# Altium footprint library Digital_ICs.PcbLib: 13 footprints
Each footprint in its own frame and in the unit in brackets; x right, y up, seen from the top. Pads: shape width x height; smd on the part's side, far side on the other; paste and mask are expansions set on the pad; w line width, h text height; cw(c..) or ccw(c..) is an arc to the next point about the centre after c.
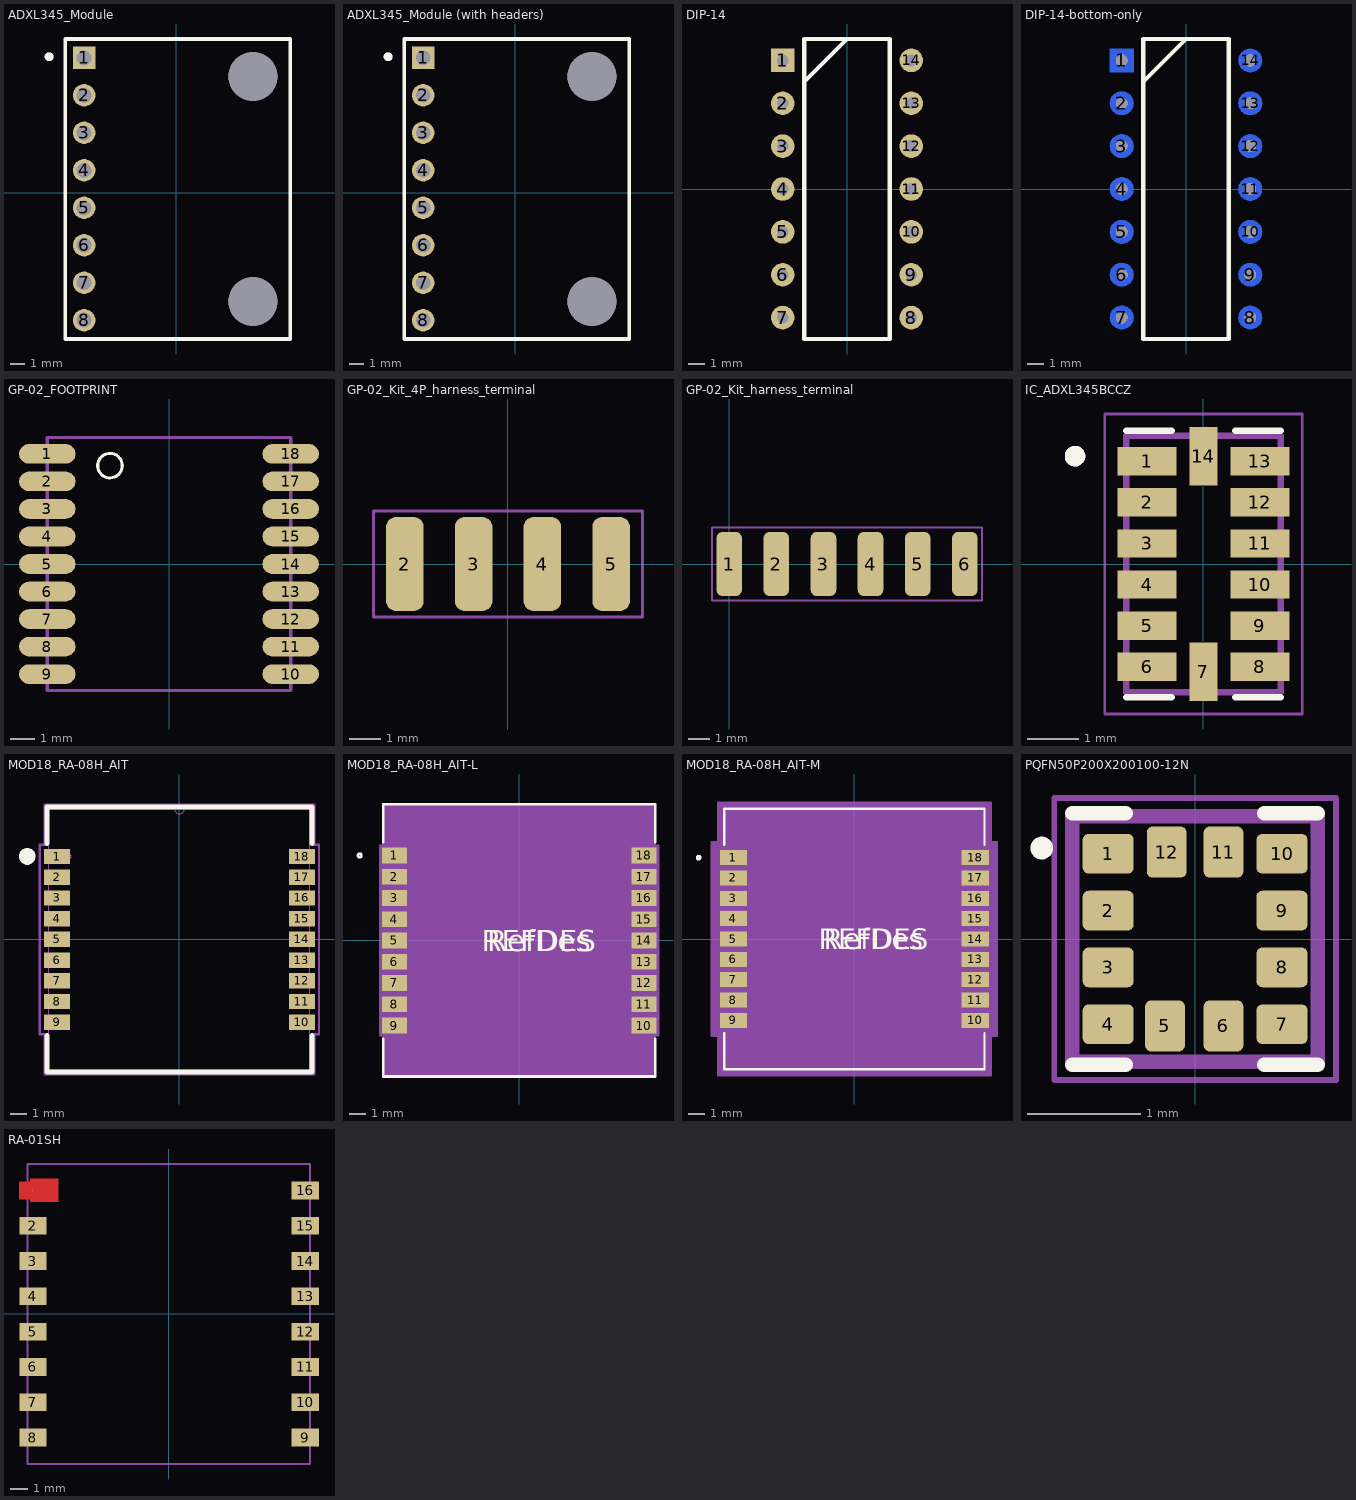
[diagram p0: the footprints below, top view; thin cyan lines are the x and y axes]

## ADXL345_Module [mil]
pads (10):
  rect 60x60 / inner round 60 / far side rect 60x60 hole 40: 1(-245.1,359.59)
  round 60 hole 40: 2(-245.1,259.59) 3(-245.1,159.59) 4(-245.1,59.59) 5(-245.1,-40.41) 6(-245.1,-140.41) 7(-245.1,-240.41) 8(-245.1,-340.41)
  round 130 hole 130 unplated: ""(204.9,-290.41) ""(204.9,309.59)
Top Overlay:
  circle w15.75: c-338.58,362.2 r3.94
  lines w9.84: -295.1,-390.41 304.9,-390.41 304.9,409.59 -295.1,409.59 -295.1,-390.41
Mechanical 13:
  circle w15.75: c-338.58,362.2 r3.94
  lines w5: -295.1,-390.41 304.9,-390.41 304.9,409.59 -295.1,409.59 -295.1,-390.41
3D body "step_temp.STEP": height 101.18, standoff 0, extent -295.1,-390.41 304.9,409.59

## ADXL345_Module (with headers) [mil] "2.54 mm headers welded"
pads (10):
  rect 60x60 / inner round 60 / far side rect 60x60 hole 39.37: 1(-245.1,359.59)
  round 60 hole 39.37: 2(-245.1,259.59) 3(-245.1,159.59) 4(-245.1,59.59) 5(-245.1,-40.41) 6(-245.1,-140.41) 7(-245.1,-240.41) 8(-245.1,-340.41)
  round 130 hole 130 unplated: ""(204.9,-290.41) ""(204.9,309.59)
Top Overlay:
  circle w15.75: c-338.58,362.2 r3.94
  lines w9.84: -295.1,-390.41 304.9,-390.41 304.9,409.59 -295.1,409.59 -295.1,-390.41
Mechanical 13:
  circle w15.75: c-338.58,362.2 r3.94
  lines w5: -295.1,-390.41 304.9,-390.41 304.9,409.59 -295.1,409.59 -295.1,-390.41
3D body "TSW-108-07-S-S-005.stp": height 316.54, standoff -113.46, extent -295.08,-395.16 -195.08,409.84
3D body "step_temp.STEP": height 317.72, standoff 216.54, extent -295.1,-390.41 304.9,409.59

## DIP-14 [mm]
pads (14):
  rect 1.4x1.4 hole 0.7 unplated mask+0.102: 1(-3.81,7.62)
  round 1.4 hole 0.7 unplated mask+0.102: 2(-3.81,5.08) 3(-3.81,2.54) 4(-3.81,0) 5(-3.81,-2.54) 6(-3.81,-5.08) 7(-3.81,-7.62) 8(3.81,-7.62) 9(3.81,-5.08) 10(3.81,-2.54) 11(3.81,0) 12(3.81,2.54) 13(3.81,5.08) 14(3.81,7.62)
Top Overlay:
  lines w0.25: -2.54,6.35 0,8.89 ; -2.54,-8.89 2.54,-8.89 2.54,8.89 -2.54,8.89 -2.54,7.62 -2.54,-7.62 -2.54,-8.89

## DIP-14-bottom-only [mm]
pads (14):
  rect 1.4x1.4 smd far side mask+0.102: 1(-3.81,7.62)
  round 1.4 smd far side mask+0.102: 2(-3.81,5.08) 3(-3.81,2.54) 4(-3.81,0) 5(-3.81,-2.54) 6(-3.81,-5.08) 7(-3.81,-7.62) 8(3.81,-7.62) 9(3.81,-5.08) 10(3.81,-2.54) 11(3.81,0) 12(3.81,2.54) 13(3.81,5.08) 14(3.81,7.62)
via 3.81,7.62 diameter 0.7 hole 0.7
via 3.81,5.08 diameter 0.7 hole 0.7
via 3.81,2.54 diameter 0.7 hole 0.7
via 3.81,0 diameter 0.7 hole 0.7
via 3.81,-2.54 diameter 0.7 hole 0.7
via 3.81,-5.08 diameter 0.7 hole 0.7
via 3.81,-7.62 diameter 0.7 hole 0.7
via -3.81,-7.62 diameter 0.7 hole 0.7
via -3.81,-5.08 diameter 0.7 hole 0.7
via -3.81,-2.54 diameter 0.7 hole 0.7
via -3.81,0 diameter 0.7 hole 0.7
via -3.81,2.54 diameter 0.7 hole 0.7
via -3.81,5.08 diameter 0.7 hole 0.7
via -3.81,7.62 diameter 0.7 hole 0.7
Top Overlay:
  lines w0.25: -2.54,6.35 0,8.89 ; -2.54,-8.89 -2.54,-7.62 -2.54,7.62 -2.54,8.89 2.54,8.89 2.54,-8.89 -2.54,-8.89

## GP-02_FOOTPRINT [mm]
pads (18):
  oval 2.3x0.8 smd: 1(-4.95,4.48) 2(-4.95,3.36) 3(-4.95,2.24) 4(-4.95,1.12) 5(-4.95,0) 6(-4.95,-1.12) 7(-4.95,-2.24) 8(-4.95,-3.36) 9(-4.95,-4.48) 10(4.95,-4.48) 11(4.95,-3.36) 12(4.95,-2.24) 13(4.95,-1.12) 14(4.95,0) 15(4.95,1.12) 16(4.95,2.24) 17(4.95,3.36) 18(4.95,4.48)
Top Overlay:
  circle w0.127: c-2.4,4 r0.5
Mechanical 13:
  lines w0.127: -4.95,-5.15 4.95,-5.15 ; -4.95,-5.15 -4.95,5.15 ; -4.95,-5.15 4.95,-5.15 ; -4.95,-5.15 -4.95,5.15 ; -4.95,5.15 4.95,5.15 ; -4.95,5.15 4.95,5.15 ; 4.95,-5.15 4.95,5.15 ; 4.95,-5.15 4.95,5.15

## GP-02_Kit_4P_harness_terminal [mm] "Reduced to 4 pin: / RX, TX, VCC, GND"
pads (4):
  rrect50% 1.2x3 smd: 2(-3.3,0) 3(-1.1,0) 4(1.1,0) 5(3.3,0)
Mechanical 13:
  lines w0.1: -4.3,-1.7 -4.3,1.7 4.3,1.7 4.3,-1.7 -4.3,-1.7

## GP-02_Kit_harness_terminal [mm]
pads (6):
  rrect50% 1.2x3 smd: 1(0,0) 2(2.2,0) 3(4.4,0) 4(6.6,0) 5(8.8,0) 6(11,0)
Mechanical 13:
  lines w0.1: -0.8,-1.7 11.8,-1.7 11.8,1.7 -0.8,1.7 -0.8,-1.7

## IC_ADXL345BCCZ [mm]
height 1
pads (14):
  rect 1.145x0.55 smd: 1(-1.098,2) 2(-1.098,1.2) 3(-1.098,0.4) 4(-1.098,-0.4) 5(-1.098,-1.2) 6(-1.098,-2) 8(1.098,-2) 9(1.098,-1.2) 10(1.098,-0.4) 11(1.098,0.4) 12(1.098,1.2) 13(1.098,2)
  rect 0.55x1.145 smd: 7(0,-2.097) 14(0,2.097)
Top Overlay:
  circle w0.2: c-2.5,2.1 r0.1
  lines w0.127: -1.5,-2.595 -0.62,-2.595 ; -1.5,2.595 -0.62,2.595 ; 0.62,-2.595 1.5,-2.595 ; 0.62,2.595 1.5,2.595
Mechanical 13:
  circle w0.2: c-2.5,2.1 r0.1
  lines w0.127: -1.5,-2.5 1.5,-2.5 1.5,2.5 -1.5,2.5 -1.5,-2.5
Mechanical 15:
  lines w0.05: -1.92,-2.92 1.92,-2.92 1.92,2.92 -1.92,2.92 -1.92,-2.92
3D body "step_temp.STEP": height 1, standoff 0, extent -1.5,-2.5 1.5,2.5

## MOD18_RA-08H_AIT [mm]
pads (18):
  rect 1.595x0.941 smd paste+0 mask+0: 1(-7.503,5.08) 2(-7.503,3.81) 3(-7.503,2.54) 4(-7.503,1.27) 5(-7.503,0) 6(-7.503,-1.27) 7(-7.503,-2.54) 8(-7.503,-3.81) 9(-7.503,-5.08) 10(7.503,-5.08) 11(7.503,-3.81) 12(7.503,-2.54) 13(7.503,-1.27) 14(7.503,0) 15(7.503,1.27) 16(7.503,2.54) 17(7.503,3.81) 18(7.503,5.08)
Top Overlay:
  region: -9.338,4.591 -9.438,4.591 -9.621,4.667 -9.762,4.808 -9.838,4.992 -9.838,5.091 -9.838,5.191 -9.762,5.375 -9.621,5.515 -9.438,5.591 -9.338,5.591 -9.239,5.591 -9.055,5.515 -8.914,5.375 -8.838,5.191 -8.838,5.091 -8.838,4.992 -8.914,4.808 -9.055,4.667 -9.239,4.591
  lines w0.3: -8.128,-5.883 -8.128,-8.128 8.128,-8.128 8.128,-5.883 ; -8.128,5.883 -8.128,8.128 8.128,8.128 8.128,5.883
Mechanical 13:
  circle w0: c-6.706,5.08 r0.076
  lines w0: -0.305,8.001 ccw(c0,8.001) 0.305,8.001
  lines w0.025: -8.001,-8.001 -8.001,8.001 8.001,8.001 8.001,-8.001 -8.001,-8.001
  lines w0.152: -8.555,-5.804 -8.555,5.804 -8.255,5.804 -8.255,8.255 8.255,8.255 8.255,5.804 8.555,5.804 8.555,-5.804 8.255,-5.804 8.255,-8.255 -8.255,-8.255 -8.255,-5.804 -8.555,-5.804
3D body "MOD18_RA-08H_AIT.step": height 3.41, standoff 0, extent -8.001,-8.001 8.001,8.001

## MOD18_RA-08H_AIT-L [mm]
pads (18):
  rect 1.495x0.941 smd paste+0 mask+0: 1(-7.453,5.08) 2(-7.453,3.81) 3(-7.453,2.54) 4(-7.453,1.27) 5(-7.453,0) 6(-7.453,-1.27) 7(-7.453,-2.54) 8(-7.453,-3.81) 9(-7.453,-5.08) 10(7.453,-5.08) 11(7.453,-3.81) 12(7.453,-2.54) 13(7.453,-1.27) 14(7.453,0) 15(7.453,1.27) 16(7.453,2.54) 17(7.453,3.81) 18(7.453,5.08)
Top Overlay:
  circle w0.152: c-9.522,5.08 r0.102
  lines w0.152: -8.128,-5.883 -8.128,-8.128 8.128,-8.128 8.128,-5.883 ; -8.128,5.883 -8.128,8.128 8.128,8.128 8.128,5.883
  text "REFDES" at -2.222,-0.635 h1.27
  text "RefDes" at -1.905,-0.635 h1.27
Mechanical 13:
  circle w0: c-6.706,5.08 r0.076
  lines w0: -0.305,8.001 ccw(c0,8.001) 0.305,8.001
  lines w0.025: -8.001,-8.001 -8.001,8.001 8.001,8.001 8.001,-8.001 -8.001,-8.001
  text "RefDes2" at -2.222,-0.635 h1.27
Mechanical 15:
  region: -8.103,-5.652 -8.303,-5.652 -8.303,5.652 -8.103,5.652 -8.103,8.103 8.103,8.103 8.103,5.652 8.303,5.652 8.303,-5.652 8.103,-5.652 8.103,-8.103 -8.103,-8.103
  lines w0.152: -8.303,-5.652 -8.103,-5.652 -8.103,-8.103 8.103,-8.103 8.103,-5.652 8.303,-5.652 8.303,5.652 8.103,5.652 8.103,8.103 -8.103,8.103 -8.103,5.652 -8.303,5.652 -8.303,-5.652
3D body "MOD18_RA-08H_AIT.step": height 3.41, standoff 0, extent -8.001,-8.001 8.001,8.001

## MOD18_RA-08H_AIT-M [mm]
pads (18):
  rect 1.695x0.941 smd paste+0 mask+0: 1(-7.553,5.08) 2(-7.553,3.81) 3(-7.553,2.54) 4(-7.553,1.27) 5(-7.553,0) 6(-7.553,-1.27) 7(-7.553,-2.54) 8(-7.553,-3.81) 9(-7.553,-5.08) 10(7.553,-5.08) 11(7.553,-3.81) 12(7.553,-2.54) 13(7.553,-1.27) 14(7.553,0) 15(7.553,1.27) 16(7.553,2.54) 17(7.553,3.81) 18(7.553,5.08)
Top Overlay:
  circle w0.152: c-9.722,5.08 r0.102
  lines w0.152: -8.128,-5.883 -8.128,-8.128 8.128,-8.128 8.128,-5.883 ; -8.128,5.883 -8.128,8.128 8.128,8.128 8.128,5.883
  text "RefDes" at -1.905,-0.635 h1.27
  text "REFDES" at -2.222,-0.635 h1.27
Mechanical 13:
  circle w0: c-6.706,5.08 r0.076
  lines w0: -0.305,8.001 ccw(c0,8.001) 0.305,8.001
  lines w0.025: -8.001,-8.001 8.001,-8.001 8.001,8.001 -8.001,8.001 -8.001,-8.001
  text "RefDes2" at -2.222,-0.635 h1.27
Mechanical 15:
  region: -8.509,-6.058 -8.909,-6.058 -8.909,6.058 -8.509,6.058 -8.509,8.509 8.509,8.509 8.509,6.058 8.909,6.058 8.909,-6.058 8.509,-6.058 8.509,-8.509 -8.509,-8.509
  lines w0.152: -8.909,-6.058 -8.909,6.058 -8.509,6.058 -8.509,8.509 8.509,8.509 8.509,6.058 8.909,6.058 8.909,-6.058 8.509,-6.058 8.509,-8.509 -8.509,-8.509 -8.509,-6.058 -8.909,-6.058
3D body "MOD18_RA-08H_AIT.step": height 3.41, standoff 0, extent -8.001,-8.001 8.001,8.001

## PQFN50P200X200100-12N [mm]
pads (12):
  rrect30% 0.45x0.35 smd: 1(-0.765,0.75) 2(-0.765,0.25) 3(-0.765,-0.25) 4(-0.765,-0.75) 7(0.765,-0.75) 8(0.765,-0.25) 9(0.765,0.25) 10(0.765,0.75)
  rrect30% 0.35x0.45 smd: 5(-0.265,-0.765) 6(0.25,-0.765) 11(0.25,0.765) 12(-0.25,0.765)
Top Overlay:
  circle w0.1: c-1.35,0.8 r0.05
  lines w0.127: -1.08,-1.105 -0.61,-1.105 ; -1.08,1.105 -0.61,1.105 ; 0.61,-1.105 1.08,-1.105 ; 0.61,1.105 1.08,1.105
Mechanical 13:
  circle w0.1: c-0.78,0.8 r0.05
  lines w0.127: -1.08,-1.08 1.08,-1.08 1.08,1.08 -1.08,1.08 -1.08,-1.08
Mechanical 15:
  lines w0.05: -1.24,-1.24 1.24,-1.24 1.24,1.24 -1.24,1.24 -1.24,-1.24
3D body "step_temp.STEP": height 1, standoff 0, extent -1,-1 1,1

## RA-01SH [mm] "SMD-16 2mm Pitch2"
pads (16):
  round 0.025 smd: 1(-7.7,7)
  rect 1.536x1 smd: 2(-7.7,5) 3(-7.7,3) 4(-7.7,1) 5(-7.7,-1) 6(-7.7,-3) 7(-7.7,-5) 8(-7.7,-7) 9(7.737,-7) 10(7.737,-5) 11(7.737,-3) 12(7.737,-1) 13(7.737,1) 14(7.737,3) 15(7.737,5) 16(7.737,7)
Top Layer:
  region: -7.85,6.35 -6.25,6.35 -6.25,7.65 -7.85,7.65 -7.85,7.5 -8.475,7.5 -8.475,6.5 -7.85,6.5
Mechanical 13:
  lines w0.1: -8,-8.5 8,-8.5 8,8.5 -8,8.5 -8,-8.5
  text "RA-01SH" at -1.775,-0.351 h1
3D body "RA-01H.STEP": height 3.4, standoff 0, extent -8,-8.5 8,8.5